# Altium footprint library Dwl-Altium-PCB-Footprint-Library.pcblib: 4 footprints
Each footprint in its own frame and in the unit in brackets; x right, y up, seen from the top. Pads: shape width x height; smd on the part's side, far side on the other; paste and mask are expansions set on the pad; w line width, h text height; cw(c..) or ccw(c..) is an arc to the next point about the centre after c.
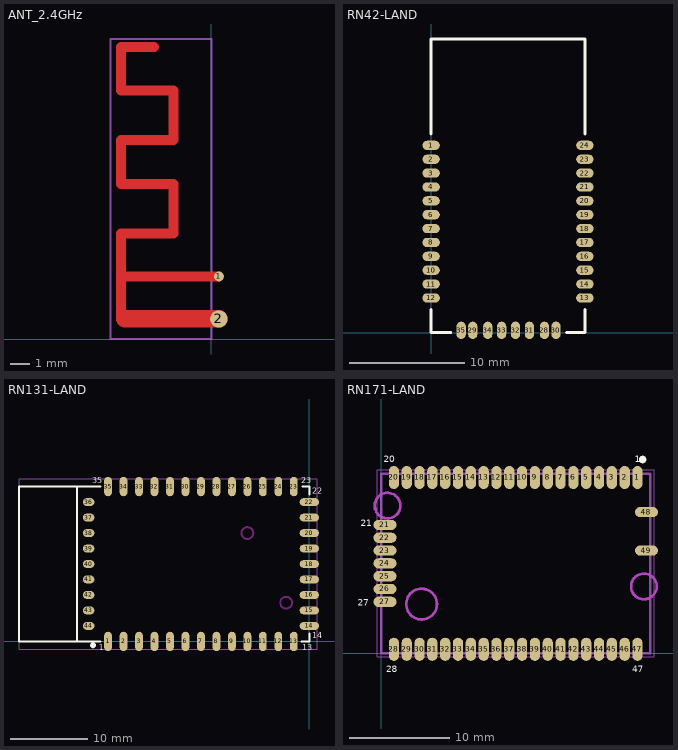
[diagram p0: the footprints below, top view; thin cyan lines are the x and y axes]

## ANT_2.4GHz [mil] "2.4GHz Inverted F Antenna"
pads (2):
  round 19.68 smd: 1(15,125)
  round 35 smd: 2(15,40)
Top Layer:
  lines w20: -180,40 -180,211 -76,211 -76,309.5 -180,309.5 ; -180,310 -180,397 -76,397 -76,495.5 ; -178,125 15,125 ; -115,583 -180,583 -180,496 -76,496
  lines w35: -172.5,40 15,40
Mechanical 15:
  lines w4: 0,598.43 0,0 -201.81,0 -201.81,598.74 0,598.74

## RN42-LAND [mm] "RN42 Footprint"
height 2.1
pads (32):
  oval 1.5x0.8 smd: 1(0,16.2) 2(0,15) 3(0,13.8) 4(0,12.6) 5(0,11.4) 6(0,10.2) 7(0,9) 8(0,7.8) 9(0,6.6) 10(0,5.4) 11(0,4.2) 12(0,3) 13(13.3,3) 14(13.3,4.2) 15(13.3,5.4) 16(13.3,6.6) 17(13.3,7.8) 18(13.3,9) 19(13.3,10.2) 20(13.3,11.4) 21(13.3,12.6) 22(13.3,13.8) 23(13.3,15) 24(13.3,16.2)
  oval 0.8x1.5 smd: 28(9.8,0.2) 29(3.6,0.2) 30(10.8,0.2) 31(8.5,0.2) 32(7.3,0.2) 33(6.1,0.2) 34(4.9,0.2) 35(2.6,0.2)
Top Overlay:
  lines w0.254: 0,2 0,0 1.7,0 ; 0,17.2 0,25.4 13.3,25.4 13.3,17.2 ; 11.7,0 13.3,0 13.3,2

## RN131-LAND [mm] "RN131 Landing Pads"
height 4.064
pads (45):
  oval 1x2.5 smd: 1(-26,0) 2(-24,0) 3(-22,0) 4(-20,0) 5(-18,0) 6(-16,0) 7(-14,0) 8(-12,0) 9(-10,0) 10(-8,0) 11(-6,0) 12(-4,0) 13(-2,0) 23(-2,20) 24(-4,20) 25(-6,20) 26(-8,20) 27(-10,20) 28(-12,20) 29(-14,20) 30(-16,20) 31(-18,20) 32(-20,20) 33(-22,20) 34(-24,20) 35(-26,20)
  oval 2.5x1 smd: 14(0,2) 15(0,4) 16(0,6) 17(0,8) 18(0,10) 19(0,12) 20(0,14) 21(0,16) 22(0,18)
  oval 1.5x1 smd: 36(-28.5,18) 37(-28.5,16) 38(-28.5,14) 39(-28.5,12) 40(-28.5,10) 41(-28.5,8) 42(-28.5,6) 43(-28.5,4) 44(-28.5,2)
  round 0.762 on Top Overlay: ""(-27.94,-0.508)
Top Layer keep-out:
  circle w0.254: c-8.001,13.995 r0.762
  circle w0.254: c-2.997,5.004 r0.762
Top Overlay:
  lines w0.254: -30,0 -30,20 ; -28.875,0 -27,0 ; -28.5,0 -37.5,0 -37.5,20 -27,20 ; -1,0 0,0 0,1 ; -0.875,20 0,20 0,19
  text "35" at -28.067,20.447 h0.76
  text "23" at -1.016,20.447 h0.76
  text "22" at 0.381,19.05 h0.76
  text "14" at 0.381,0.381 h0.76
  text "13" at -0.889,-1.143 h0.76
  text "1" at -27.178,-1.143 h0.76
Mechanical 15:
  lines w0.1: -37.5,-1 1,-1 1,21 -37.5,21 -37.5,-1

## RN171-LAND [mil] "RN171 Landing Pads"
height 100
pads (50):
  oval 40x90 smd: 1(1000,685) 2(950,685) 3(900,685) 4(850,685) 5(800,685) 6(750,685) 7(700,685) 8(650,685) 9(600,685) 10(550,685) 11(500,685) 12(450,685) 13(400,685) 14(350,685) 15(300,685) 16(250,685) 17(200,685) 18(150,685) 19(100,685) 20(50,685) 28(50,15) 29(100,15) 30(150,15) 31(200,15) 32(250,15) 33(300,15) 34(350,15) 35(400,15) 36(450,15) 37(500,15) 38(550,15) 39(600,15) 40(650,15) 41(700,15) 42(750,15) 43(800,15) 44(850,15) 45(900,15) 46(950,15) 47(1000,15)
  oval 90x40 smd: 21(15,500) 22(15,450) 23(15,400) 24(15,350) 25(15,300) 26(15,250) 27(15,200) 48(1035,550) 49(1035,400)
  round 30 on Top Overlay: ""(1020,755)
Top Overlay:
  text "21" at -80,495 h25
  text "20" at 10,745 h25
  text "1" at 990,745 h25
  text "27" at -90,185 h25
  text "47" at 980,-75 h25
  text "28" at 20,-75 h25
Mechanical 13:
  lines w10: 0,0 1050,0 1050,700 0,700 0,0
  text "Keepout" at 975,191 h10
  text "Keepout" at 125,115 h10
  text "Keepout" at 85,545 h10
Mechanical 13 keep-out:
  circle w10: c1025,260 r50
  circle w10: c25,575 r50
  circle w10: c158,191 r60
Mechanical 15:
  lines w4: -15,-15 -15,715 1065,715 1065,-15 -15,-15